# EAGLE library part HEADER_2X5 (library logic-supply)
Harwin SMT header
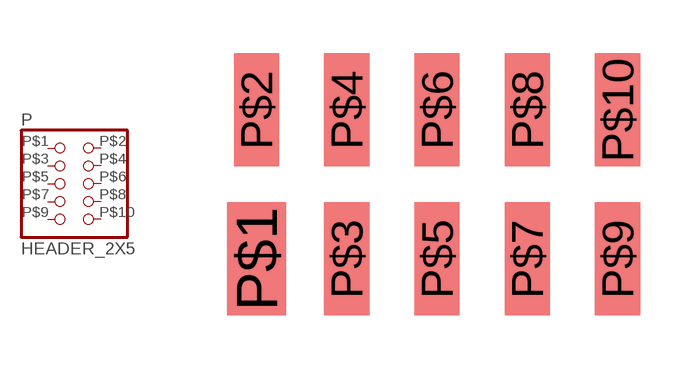
[diagram p50: symbol with the pads of HEADER_2X5-SMT; footprint HEADER_2X5-SMT]

Designator prefix P

## HEADER_2X5  [HEADER_2X5-SMT]
P$1  1  pas
P$2  2  pas
P$3  3  pas
P$4  4  pas
P$5  5  pas
P$6  6  pas
P$7  7  pas
P$8  8  pas
P$9  9  pas
P$10  10  pas

## Footprint HEADER_2X5-SMT (pad centres in mm)
smd 1.651 x 3.175: P$1 -5.08,-2.095
smd 1.27 x 3.175: P$2 -5.08,2.095; P$3 -2.54,-2.095; P$4 -2.54,2.095; P$5 0,-2.095; P$6 0,2.095; P$7 2.54,-2.095; P$8 2.54,2.095; P$9 5.08,-2.095; P$10 5.08,2.095